# EAGLE library part СНП392-6 (library connectors)
РЮМК.430420.037 ТУ Соединитель электрический прямоугольный типа СНП392 предназначен для работы в электрических цепях постоянного, переменного и импульсного токов в радиоэлектронной аппаратуре специального и общепромышленного назначения. Технические условия ОТК: РЮМК.430420.050 ТУ Технические условия ВП: РЮМК.430420.037 ТУ Производитель: АО «Карачевский завод "Электродеталь" 242500 Брянская область, г. Карачев, ул. Горького, 1
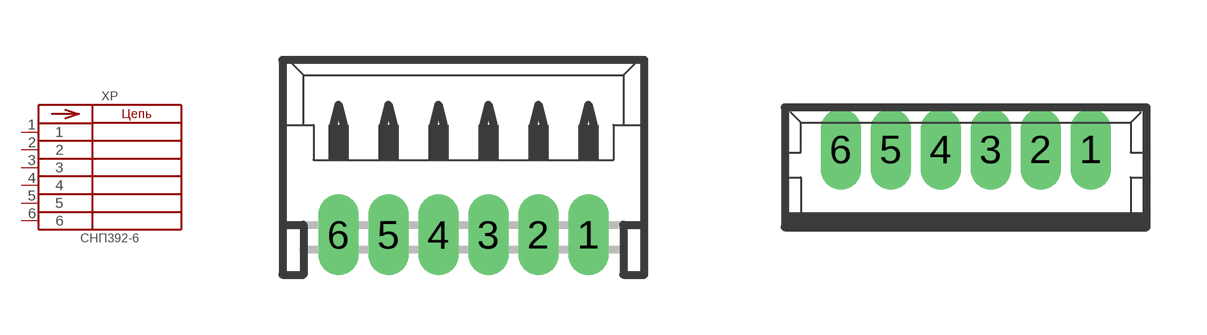
[diagram p3: symbol with the pads of СНП392-6(угловой); footprints СНП392-6(угловой), СНП392-6(прямой)]

Designator prefix XP

## СНП392-6В321-1  [СНП392-6(угловой)]
1  1  pas
2  2  pas
3  3  pas
4  4  pas
5  5  pas
6  6  pas

## СНП392-6ВП21-1  [СНП392-6(прямой)]
Pads as for СНП392-6(угловой)

## СНП392-6ВП51-1  [СНП392-6(поверхностный)]
Pads as for СНП392-6(угловой)

## Footprint СНП392-6(угловой) (pad centres in mm)
drill 0.5 pad 0.698 long: 1 3.125,-1.25; 2 1.875,-1.25; 3 0.625,-1.25; 4 -0.625,-1.25; 5 -1.875,-1.25; 6 -3.125,-1.25

## Footprint СНП392-6(прямой) (pad centres in mm)
drill 0.5 pad 0.698 long: 1 3.125,0.45; 2 1.875,0.45; 3 0.625,0.45; 4 -0.625,0.45; 5 -1.875,0.45; 6 -3.125,0.45

## Footprint СНП392-6(поверхностный) (pad centres in mm)
smd 0.8 x 2: 1 3.125,-2.5; 2 1.875,-2.5; 3 0.625,-2.5; 4 -0.625,-2.5; 5 -1.875,-2.5; 6 -3.125,-2.5
smd 2.1 x 3: S1 5.625,0.625; S2 -5.625,0.625